# Altium schematic symbol library SCH - ARM CORTEX - STM STM32G030J6Mx.SchLib: 1 symbol
Pins are listed as number, name and electrical type; pins without a type are passive.

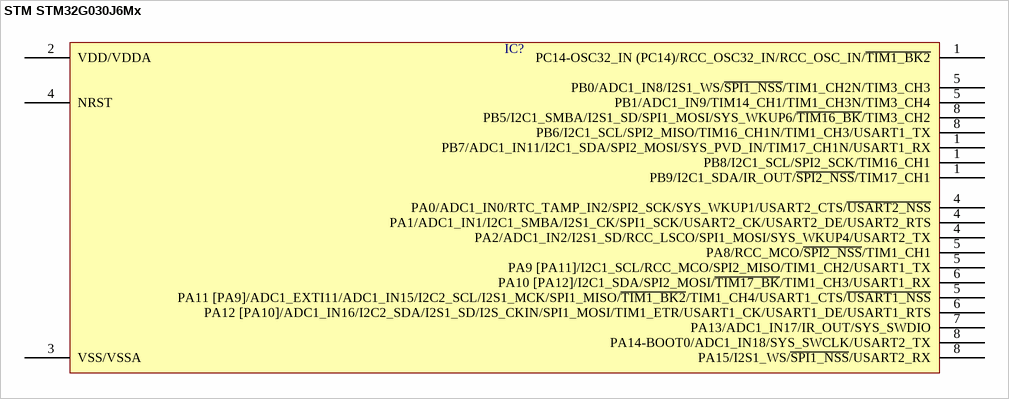
[diagram p0: symbol STM STM32G030J6Mx]

## STM STM32G030J6Mx
designator IC?  (value not drawn)
pins: 1 PC14-OSC32_IN (PC14)/RCC_OSC32_IN/RCC_OSC_IN/~{TIM1_BK2}, 1 PB7/ADC1_IN11/I2C1_SDA/SPI2_MOSI/SYS_PVD_IN/TIM17_CH1N/USART1_RX, 1 PB8/I2C1_SCL/SPI2_SCK/TIM16_CH1, 1 PB9/I2C1_SDA/IR_OUT/~{SPI2_NSS}/TIM17_CH1, 2 VDD/VDDA, 3 VSS/VSSA, 4 PA0/ADC1_IN0/RTC_TAMP_IN2/SPI2_SCK/SYS_WKUP1/USART2_CTS/~{USART2_NSS}, 4 PA1/ADC1_IN1/I2C1_SMBA/I2S1_CK/SPI1_SCK/USART2_CK/USART2_DE/USART2_RTS, 4 PA2/ADC1_IN2/I2S1_SD/RCC_LSCO/SPI1_MOSI/SYS_WKUP4/USART2_TX, 4 NRST, 5 PB0/ADC1_IN8/I2S1_WS/~{SPI1_NSS}/TIM1_CH2N/TIM3_CH3, 5 PB1/ADC1_IN9/TIM14_CH1/TIM1_CH3N/TIM3_CH4, 5 PA8/RCC_MCO/~{SPI2_NSS}/TIM1_CH1, 5 PA9 [PA11]/I2C1_SCL/RCC_MCO/SPI2_MISO/TIM1_CH2/USART1_TX, 5 PA11 [PA9]/ADC1_EXTI11/ADC1_IN15/I2C2_SCL/I2S1_MCK/SPI1_MISO/~{TIM1_BK2}/TIM1_CH4/USART1_CTS/~{USART1_NSS}, 6 PA10 [PA12]/I2C1_SDA/SPI2_MOSI/~{TIM17_BK}/TIM1_CH3/USART1_RX, 6 PA12 [PA10]/ADC1_IN16/I2C2_SDA/I2S1_SD/I2S_CKIN/SPI1_MOSI/TIM1_ETR/USART1_CK/USART1_DE/USART1_RTS, 7 PA13/ADC1_IN17/IR_OUT/SYS_SWDIO, 8 PB5/I2C1_SMBA/I2S1_SD/SPI1_MOSI/SYS_WKUP6/~{TIM16_BK}/TIM3_CH2, 8 PB6/I2C1_SCL/SPI2_MISO/TIM16_CH1N/TIM1_CH3/USART1_TX, 8 PA14-BOOT0/ADC1_IN18/SYS_SWCLK/USART2_TX, 8 PA15/I2S1_WS/~{SPI1_NSS}/USART2_RX